# Altium footprint library IC.PcbLib: 26 footprints (part 1 of 2)
Each footprint in its own frame and in the unit in brackets; x right, y up, seen from the top. Pads: shape width x height; smd on the part's side, far side on the other; paste and mask are expansions set on the pad; w line width, h text height; cw(c..) or ccw(c..) is an arc to the next point about the centre after c.
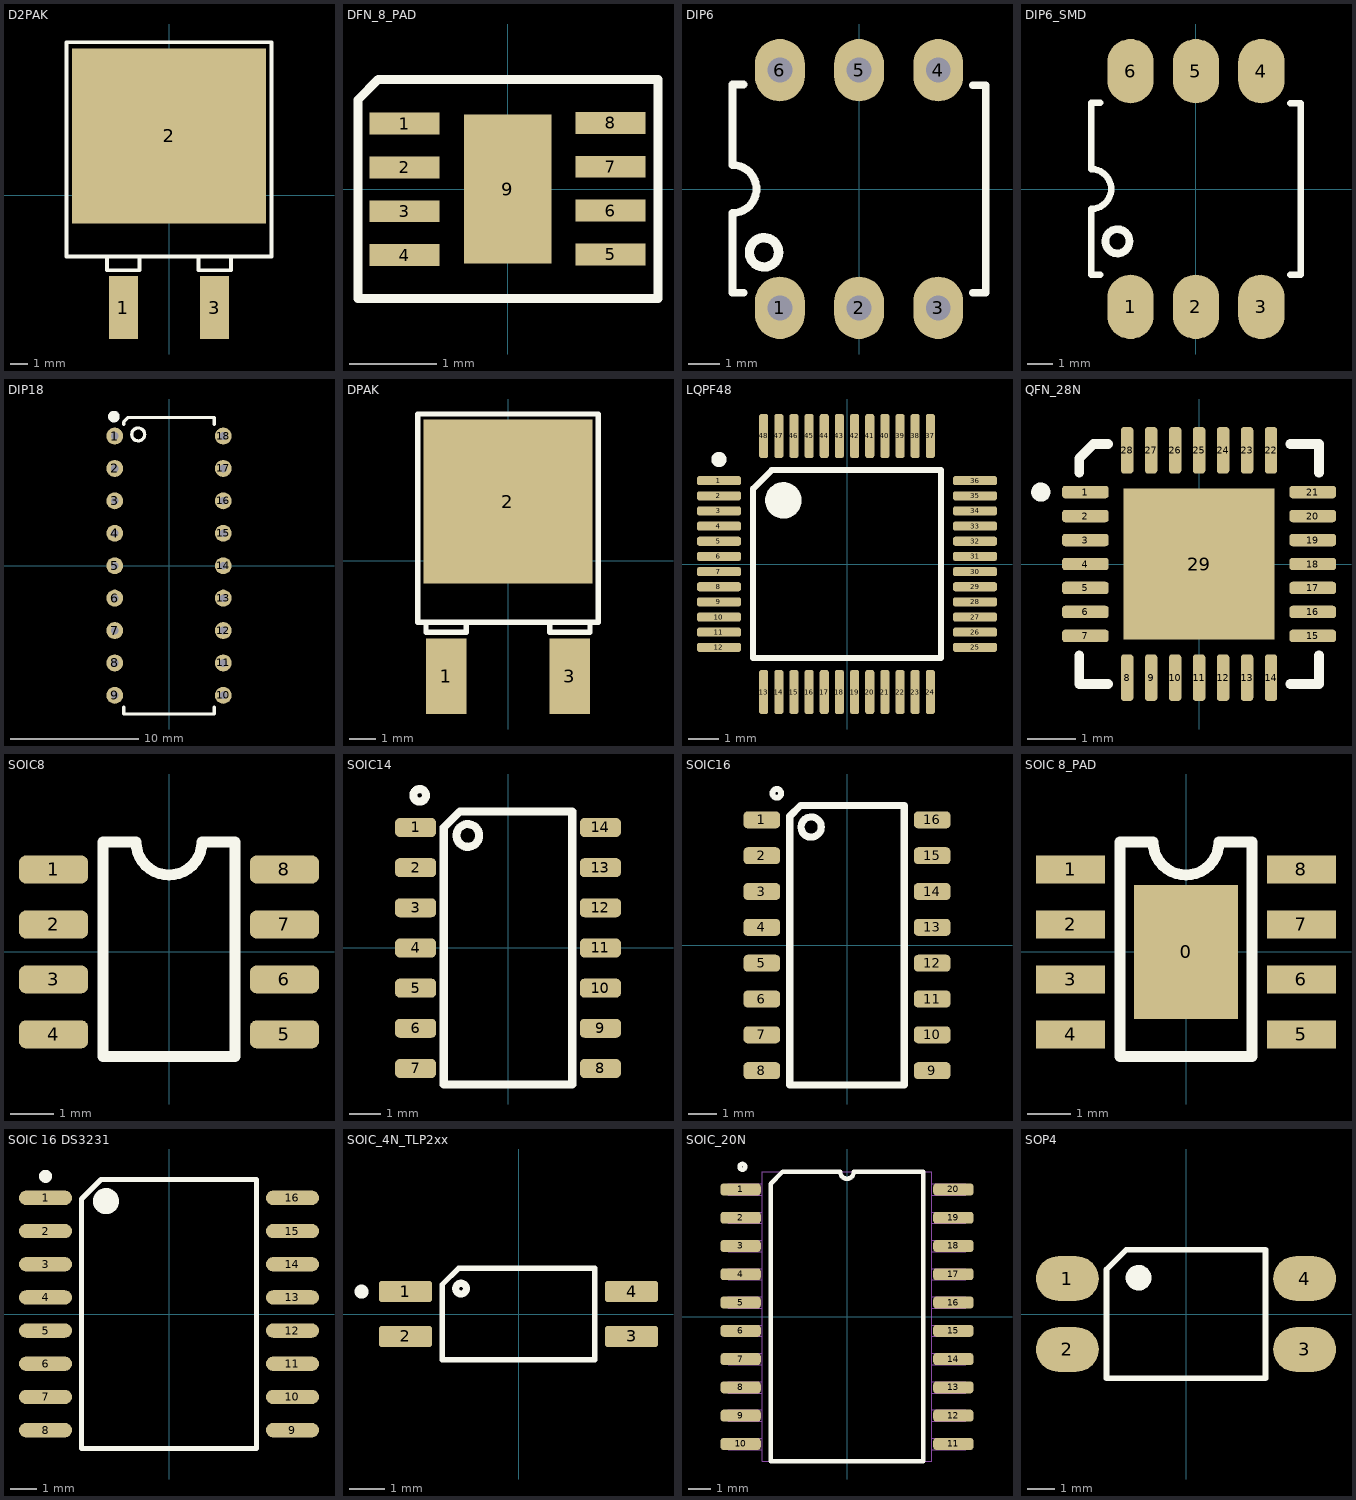
[diagram p0: the footprints below, top view; thin cyan lines are the x and y axes]

## D2PAK [mm] "SMD"
pads (3):
  rect 1.6x3.5 smd: 1(-2.54,-6.275) 3(2.54,-6.275)
  rect 10.8x9.75 smd: 2(0,3.3)
Top Overlay:
  lines w0.203: -3.455,-3.425 -3.455,-4.191 -1.646,-4.191 -1.646,-3.425 ; 1.646,-3.425 1.646,-4.191 3.455,-4.191 3.455,-3.425 ; -5.715,-3.425 -5.715,8.509 5.715,8.509 5.715,-3.425 -5.715,-3.425
3D body "TO-263AB.stp": height 4.93, standoff 0.13, extent -5.321,-7.925 5.321,7.925

## DFN_8_PAD [mm] "SHT3X"
pads (9):
  rect 0.8x0.25 smd mask+0.051: 1(-1.175,0.746) 2(-1.175,0.246) 3(-1.175,-0.254) 4(-1.175,-0.754) 5(1.175,-0.746) 6(1.175,-0.246) 7(1.175,0.254) 8(1.175,0.754)
  rect 1x1.7 smd mask+0.051: 9(0,0)
Top Overlay:
  lines w0.102: -1.707,-1.25 0,-1.25 1.716,-1.25 1.716,1.25 -1.25,1.25 -1.474,1.25 -1.707,1.017 -1.707,-1.25
3D body "User Library-sht3x-1.step": height 0.98, standoff 0.08, extent -1.25,-1.226 1.25,1.274

## DIP6 [mm] "6 PIN, W 300mil, Pin to pin 100mil"
height 2.54
pads (6):
  oval 1.6x2 hole 0.8: 1(-2.54,-3.81) 2(0,-3.81) 3(2.54,-3.81) 4(2.54,3.81) 5(0,3.81) 6(-2.54,3.81)
Top Overlay:
  circle w0.3: c-3.048,-2.032 r0.468
  lines w0.254: -3.71,-3.327 -4.064,-3.327 -4.064,-0.773 ccw(c-4.064,0) -4.064,0.773 -4.064,3.353 -3.708,3.353 ; 3.658,-3.327 4.064,-3.327 4.064,3.327 3.658,3.327
3D body "SW3DPS-DIP6-DEFAULT.STEP": height 4.44, standoff -3.15, extent -4.039,-4 4.041,4

## DIP6_SMD [mm] "6 PIN, W 300mil, Pin to pin 100mil"
height 2.54
pads (6):
  oval 1.8x2.5 smd: 1(-2.54,-4.572) 2(0,-4.572) 3(2.54,-4.572) 4(2.54,4.572) 5(0,4.572) 6(-2.54,4.572)
Top Overlay:
  circle w0.3: c-3.048,-2.032 r0.468
  lines w0.254: -3.71,-3.327 -4.064,-3.327 -4.064,-0.773 ccw(c-4.064,0) -4.064,0.773 -4.064,3.353 -3.708,3.353 ; 3.658,-3.327 4.064,-3.327 4.064,3.327 3.658,3.327
3D body "MOC3021SM.STEP": height 4.83, standoff 0.03, extent -4.255,-4.582 4.255,4.583

## DIP18 [mm]
pads (18):
  round 1.324 hole 0.6: 1(-4.25,10.16) 2(-4.25,7.62) 3(-4.25,5.08) 4(-4.25,2.54) 5(-4.25,0) 6(-4.25,-2.54) 7(-4.25,-5.08) 8(-4.25,-7.62) 9(-4.25,-10.16) 10(4.25,-10.16) 11(4.25,-7.62) 12(4.25,-5.08) 13(4.25,-2.54) 14(4.25,0) 15(4.25,2.54) 16(4.25,5.08) 17(4.25,7.62) 18(4.25,10.16)
Top Overlay:
  circle w0.508: c-4.318,11.684 r0.203
  circle w0.254: c-2.413,10.287 r0.508
  lines w0.254: -3.55,-11.076 -3.55,-11.62 3.55,-11.62 3.55,-11.076 ; -3.55,11.076 -3.55,11.269 -3.199,11.62 3.55,11.62 3.55,11.076
3D body "step_temp.STEP": height 3.93, standoff -3.3, extent -4.375,-11.62 4.375,11.62

## DPAK [mm] "DPAK"
height 2.39
pads (3):
  rect 1.5x2.8 smd: 1(-2.3,-4.3) 3(2.3,-4.3)
  rect 6.3x6.1 smd: 2(0,2.2)
Top Overlay:
  lines w0.203: -2.829,-2.286 -3.05,-2.286 -3.05,-2.667 -1.55,-2.667 -1.55,-2.286 ; 1.55,-2.286 1.55,-2.667 3.05,-2.667 3.05,-2.286 ; -3.356,-2.286 3.356,-2.286 3.356,5.461 -3.356,5.461 -3.356,-2.286
3D body "TO-252AA-IRF.stp": height 2.46, standoff 0.08, extent -3.356,-5.207 3.356,5.207

## LQPF48 [mm] "LQPF48, 48 Leads, pitch 0.5mm"
height 1.6
pads (48):
  rrect50% 1.45x0.3 smd mask+0.051: 1(-4.225,2.75) 2(-4.225,2.25) 3(-4.225,1.75) 4(-4.225,1.25) 5(-4.225,0.75) 6(-4.225,0.25) 7(-4.225,-0.25) 8(-4.225,-0.75) 9(-4.225,-1.25) 10(-4.225,-1.75) 11(-4.225,-2.25) 12(-4.225,-2.75) 25(4.225,-2.75) 26(4.225,-2.25) 27(4.225,-1.75) 28(4.225,-1.25) 29(4.225,-0.75) 30(4.225,-0.25) 31(4.225,0.25) 32(4.225,0.75) 33(4.225,1.25) 34(4.225,1.75) 35(4.225,2.25) 36(4.225,2.75)
  rrect50% 0.3x1.45 smd mask+0.051: 13(-2.75,-4.225) 14(-2.25,-4.225) 15(-1.75,-4.225) 16(-1.25,-4.225) 17(-0.75,-4.225) 18(-0.25,-4.225) 19(0.25,-4.225) 20(0.75,-4.225) 21(1.25,-4.225) 22(1.75,-4.225) 23(2.25,-4.225) 24(2.75,-4.225) 37(2.75,4.225) 38(2.25,4.225) 39(1.75,4.225) 40(1.25,4.225) 41(0.75,4.225) 42(0.25,4.225) 43(-0.25,4.225) 44(-0.75,4.225) 45(-1.25,4.225) 46(-1.75,4.225) 47(-2.25,4.225) 48(-2.75,4.225)
Top Overlay:
  circle w0.25: c-4.225,3.45 r0.125
  circle w0.6: c-2.1,2.1 r0.3
  lines w0.2: -3.1,-3.1 -3.1,2.488 -2.488,3.1 3.1,3.1 3.1,-3.1 -3.1,-3.1
3D body "STM32F103C8T6TR.stp": height 1.7, standoff 0.1, extent -4.5,-4.5 4.5,4.5

## QFN_28N [mm] "QFN50P500X500X100-29N"
pads (29):
  rrect50% 0.97x0.26 smd mask+0.064: 1(-2.37,1.5) 2(-2.37,1) 3(-2.37,0.5) 4(-2.37,0) 5(-2.37,-0.5) 6(-2.37,-1) 7(-2.37,-1.5) 15(2.37,-1.5) 16(2.37,-1) 17(2.37,-0.5) 18(2.37,0) 19(2.37,0.5) 20(2.37,1) 21(2.37,1.5)
  rrect50% 0.26x0.97 smd mask+0.064: 8(-1.5,-2.37) 9(-1,-2.37) 10(-0.5,-2.37) 11(0,-2.37) 12(0.5,-2.37) 13(1,-2.37) 14(1.5,-2.37) 22(1.5,2.37) 23(1,2.37) 24(0.5,2.37) 25(0,2.37) 26(-0.5,2.37) 27(-1,2.37) 28(-1.5,2.37)
  rect 3.15x3.15 smd paste-0.585 mask+0.064: 29(0,0)
Top Overlay:
  circle w0.2: c-3.3,1.5 r0.1
  lines w0.203: -2.5,-1.9 -2.5,-2.5 -1.9,-2.5 ; -2.5,1.9 -2.5,2.2 -2.2,2.5 -1.9,2.5 ; 1.9,-2.5 2.5,-2.5 2.5,-1.9 ; 1.9,2.5 2.5,2.5 2.5,1.9
3D body "step_temp.STEP": height 1.05, standoff 0.05, extent -2.5,-2.5 2.5,2.5

## SOIC8 [mm] "SMD"
height 1.75
pads (8):
  rrect50% 1.6x0.65 smd mask+0.076: 1(-2.667,1.905) 2(-2.667,0.635) 3(-2.667,-0.635) 4(-2.667,-1.905) 5(2.667,-1.905) 6(2.667,-0.635) 7(2.667,0.635) 8(2.667,1.905)
Top Overlay:
  lines w0.254: -1.524,-2.413 1.524,-2.413 1.524,2.54 0.762,2.54 cw(c0,2.54) 0,1.778 cw(c0,2.54) -0.762,2.54 -1.524,2.54 -1.524,-2.413
3D body "User Library-SOIC-8.STEP": height 1.75, standoff 0, extent -3.006,-2.5 3.006,2.5

## SOIC14 [mm] "SMD"
height 2.65
pads (14):
  rrect50% 1.3x0.6 smd: 1(-2.921,3.81) 2(-2.921,2.54) 3(-2.921,1.27) 4(-2.921,0) 5(-2.921,-1.27) 6(-2.921,-2.54) 7(-2.921,-3.81) 8(2.921,-3.81) 9(2.921,-2.54) 10(2.921,-1.27) 11(2.921,0) 12(2.921,1.27) 13(2.921,2.54) 14(2.921,3.81)
Top Overlay:
  circle w0.254: c-2.794,4.826 r0.2
  circle w0.254: c-1.27,3.556 r0.359
  lines w0.254: -2.032,-4.318 2.032,-4.318 2.032,4.318 -1.524,4.318 -2.032,3.81 -2.032,-4.318
3D body "SW3dPS-so14p865x390ll600ls127h155.STEP": height 1.55, standoff 0, extent -3,-4.325 3,4.325

## SOIC16 [mm] "74HCxxx"
pads (16):
  rrect50% 1.3x0.6 smd: 1(-3.021,4.445) 2(-3.021,3.175) 3(-3.021,1.905) 4(-3.021,0.635) 5(-3.021,-0.635) 6(-3.021,-1.905) 7(-3.021,-3.175) 8(-3.021,-4.445) 9(3.021,-4.445) 10(3.021,-3.175) 11(3.021,-1.905) 12(3.021,-0.635) 13(3.021,0.635) 14(3.021,1.905) 15(3.021,3.175) 16(3.021,4.445)
Top Overlay:
  circle w0.254: c-1.27,4.191 r0.359
  circle w0.203: c-2.489,5.385 r0.155
  lines w0.254: -2.032,-4.953 2.032,-4.953 2.032,4.953 -1.651,4.953 -2.032,4.572 -2.032,-4.953
3D body "SOIC-16-1.step": height 1.4, standoff 0, extent -3,-4.95 3,4.95

## SOIC 8_PAD [mm] "SMD"
pads (9):
  rect 2.4x3.1 smd: 0(0,0)
  rect 1.6x0.65 smd mask+0.076: 1(-2.667,1.905) 2(-2.667,0.635) 3(-2.667,-0.635) 4(-2.667,-1.905) 5(2.667,-1.905) 6(2.667,-0.635) 7(2.667,0.635) 8(2.667,1.905)
Top Overlay:
  lines w0.254: -1.524,-2.413 -1.524,2.54 -0.762,2.54 ccw(c0,2.54) 0,1.778 ccw(c0,2.54) 0.762,2.54 1.524,2.54 1.524,-2.413 -1.524,-2.413
3D body "User Library-SOIC-8.STEP": height 1.75, standoff 0, extent -3.006,-2.5 3.006,2.5

## SOIC 16 DS3231 [mm] "SOIC, 16-Leads, Body 10.30x7.50mm, Pitch 1.27mm, IPC Medium Density"
height 2.4
pads (16):
  oval 2.032x0.55 smd: 1(-4.725,4.445) 2(-4.725,3.175) 3(-4.725,1.905) 4(-4.725,0.635) 5(-4.725,-0.635) 6(-4.725,-1.905) 7(-4.725,-3.175) 8(-4.725,-4.445) 9(4.725,-4.445) 10(4.725,-3.175) 11(4.725,-1.905) 12(4.725,-0.635) 13(4.725,0.635) 14(4.725,1.905) 15(4.725,3.175) 16(4.725,4.445)
Top Overlay:
  circle w0.25: c-4.725,5.27 r0.125
  circle w0.6: c-2.413,4.318 r0.2
  lines w0.2: -3.35,-5.15 -3.35,4.397 -2.597,5.15 3.35,5.15 3.35,-5.15 -3.35,-5.15
3D body "User Library-SO-16W.STEP": height 2.48, standoff 0, extent -5.155,-5.165 5.155,5.165

## SOIC_4N_TLP2xx [mm]
height 2.2
pads (4):
  rrect25% 1.5x0.6 smd: 1(-3.2,0.635) 2(-3.2,-0.635) 3(3.2,-0.635) 4(3.2,0.635)
Top Overlay:
  circle w0.2: c-4.445,0.635 r0.1
  circle w0.2: c-1.628,0.72 r0.152
  lines w0.152: -2.159,-1.3 2.159,-1.3 2.159,1.3 -1.69,1.3 -2.159,0.831 -2.159,-1.3
3D body "step_temp.STEP": height 2.3, standoff 0, extent -3.5,-1.3 3.5,1.3

## SOIC_20N [mil] "74HC245, 74HCT245"
pads (20):
  rrect50% 71x21 smd: 1(-188,225) 2(-188,175) 3(-188,125) 4(-188,75) 5(-188,25) 6(-188,-25) 7(-188,-75) 8(-188,-125) 9(-188,-175) 10(-188,-225) 11(188,-225) 12(188,-175) 13(188,-125) 14(188,-75) 15(188,-25) 16(188,25) 17(188,75) 18(188,125) 19(188,175) 20(188,225)
Top Overlay:
  circle w8: c-185,265 r5
  lines w8: -135,-256 -135,235 -114,256 -12,256 ccw(c0,256) 12,256 135,256 135,-256 -135,-256
Mechanical 13:
  lines w0: -12,256 ccw(c0,256) 12,256 ; -12,256 -150,256 -150,-256 150,-256 150,256 12,256 ; -12,256 12,256 ; -210,-235 -150,-235 -150,-215 -210,-215 -210,-235 ; -210,-185 -150,-185 -150,-165 -210,-165 -210,-185 ; -210,-135 -150,-135 -150,-115 -210,-115 -210,-135 ; -210,-85 -150,-85 -150,-65 -210,-65 -210,-85 ; -210,-35 -150,-35 -150,-15 -210,-15 -210,-35 ; -210,15 -150,15 -150,35 -210,35 -210,15 ; -210,65 -150,65 -150,85 -210,85 -210,65 ; -210,115 -150,115 -150,135 -210,135 -210,115 ; -210,165 -150,165 -150,185 -210,185 -210,165 ; -210,215 -150,215 -150,235 -210,235 -210,215 ; 150,-235 210,-235 210,-215 150,-215 150,-235 ; 150,-185 210,-185 210,-165 150,-165 150,-185 ; 150,-135 210,-135 210,-115 150,-115 150,-135 ; 150,-85 210,-85 210,-65 150,-65 150,-85 ; 150,-35 210,-35 210,-15 150,-15 150,-35 ; 150,15 210,15 210,35 150,35 150,15 ; 150,65 210,65 210,85 150,85 150,65 ; 150,115 210,115 210,135 150,135 150,115 ; 150,165 210,165 210,185 150,185 150,165 ; 150,215 210,215 210,235 150,235 150,215
3D body "step_temp.STEP": height 104.33, standoff 0, extent -203.25,-251.97 203.25,251.97

## SOP4 [mm]
pads (4):
  oval 2.25x1.6 smd: 1(-4.25,1.27) 2(-4.25,-1.27) 3(4.25,-1.27) 4(4.25,1.27)
Top Overlay:
  circle w0.2: c-1.7,1.3 r0.361
  region: -1.4,1.003 -2.006,1.003 -2.006,1.6 -1.4,1.6
  lines w0.2: -2.85,-2.3 2.85,-2.3 2.85,2.3 -2.145,2.3 -2.85,1.595 -2.85,-2.3
3D body "pc817x1nip1b.stp": height 3.6, standoff 0, extent -4.8,-2.3 4.8,2.3